# Altium footprint library SparkFun-Capacitors.PCBLIB: 33 footprints (part 1 of 3)
Each footprint in its own frame and in the unit in brackets; x right, y up, seen from the top. Pads: shape width x height; smd on the part's side, far side on the other; paste and mask are expansions set on the pad; w line width, h text height; cw(c..) or ccw(c..) is an arc to the next point about the centre after c.
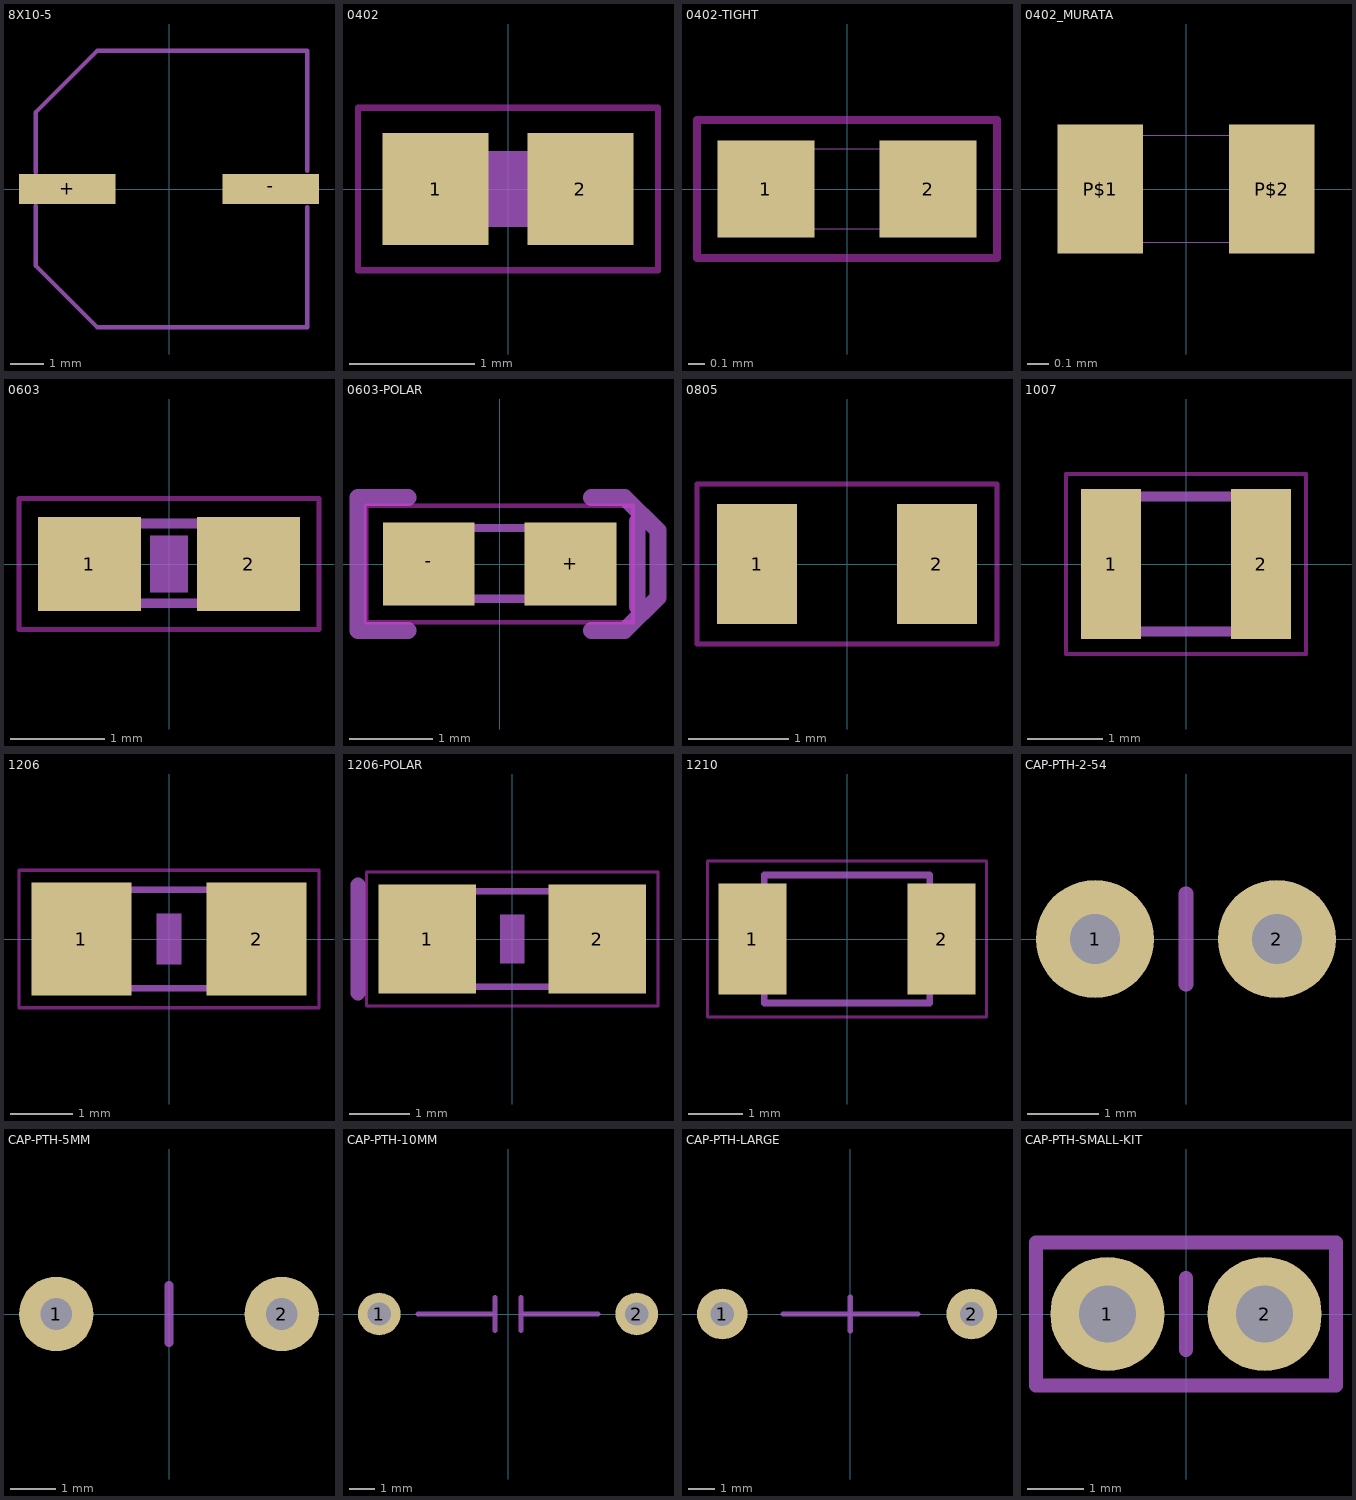
[diagram p0: the footprints below, top view; thin cyan lines are the x and y axes]

## 8X10-5 [mil]
pads (2):
  rect 114.17x35.43 smd: +(-120.08,0) -(120.08,0)
tPlace:
  lines w5: -157.48,-19.69 -157.48,-90.55 -84.65,-163.39 163.39,-163.39 163.39,-21.65 ; -157.48,19.69 -157.48,90.55 -84.65,163.39 163.39,163.39 163.39,21.65

## 0402 [mil]
pads (2):
  rect 33.46x35.43 smd: 1(-22.83,0) 2(22.83,0)
Top keep-out:
  lines w2: -47.24,-25.59 47.24,-25.59 47.24,25.59 -47.24,25.59 -47.24,-25.59
tDocu:
  region: -21.81,-12 -21.81,12 -10,12 -10,-12
  region: 10.19,-12 10.19,12 22,12 22,-12
  lines w6: -10.65,-9 10.65,-9 ; -10.65,9 10.65,9
tGlue:
  region: -7.87,-11.81 -7.87,11.81 7.87,11.81 7.87,-11.81

## 0402-TIGHT [mil]
pads (2):
  rect 23.62x23.62 smd: 1(-19.69,0) 2(19.69,0)
Top keep-out:
  lines w1.97: -36.46,-16.78 -36.46,16.78 36.46,16.78 36.46,-16.78 -36.46,-16.78
tDocu:
  region: -19.69,-9.84 -19.69,9.84 -11.81,9.84 -11.81,-9.84
  region: 19.69,9.84 19.69,-9.84 11.81,-9.84 11.81,9.84
  lines w0.1: -19.69,-9.84 -19.69,9.84 19.69,9.84 19.69,-9.84 -19.69,-9.84

## 0402_MURATA [mil]
pads (2):
  rect 15.75x23.62 smd mask+0: P$1(-15.75,0) P$2(15.75,0)
Top Solder:
  region: -23.62,-11.81 -23.62,11.81 -7.87,11.81 -7.87,-11.81
  region: 7.87,-11.81 7.87,11.81 23.62,11.81 23.62,-11.81
tDocu:
  region: -19.69,-9.84 -19.69,9.84 -11.81,9.84 -11.81,-9.84
  region: 19.69,9.84 19.69,-9.84 11.81,-9.84 11.81,9.84
  lines w0.1: -19.69,-9.84 -19.69,9.84 19.69,9.84 19.69,-9.84 -19.69,-9.84

## 0603 [mm]
pads (2):
  rect 1.1x1 smd: 1(-0.85,0) 2(0.85,0)
Top keep-out:
  lines w0.051: -1.6,-0.7 1.6,-0.7 1.6,0.7 -1.6,0.7 -1.6,-0.7
tDocu:
  region: -0.838,-0.47 -0.838,0.48 -0.338,0.48 -0.338,-0.47
  region: 0.33,-0.47 0.33,0.48 0.83,0.48 0.83,-0.47
  lines w0.102: -0.356,-0.419 0.356,-0.419 ; -0.356,0.432 0.356,0.432
tGlue:
  region: -0.2,-0.3 -0.2,0.3 0.2,0.3 0.2,-0.3

## 0603-POLAR [mm]
pads (2):
  rect 1.1x1 smd: +(0.85,0) -(-0.85,0)
Top keep-out:
  lines w0.051: -1.6,-0.7 1.6,-0.7 1.6,0.7 -1.6,0.7 -1.6,-0.7
tDocu:
  region: -0.838,-0.47 -0.838,0.48 -0.338,0.48 -0.338,-0.47
  region: 0.33,-0.47 0.33,0.48 0.83,0.48 0.83,-0.47
  lines w0.102: -0.356,-0.419 0.356,-0.419 ; -0.356,0.432 0.356,0.432
  lines w0.203: -1.1,-0.8 -1.7,-0.8 -1.7,0.8 -1.1,0.8 ; 1.1,-0.8 1.5,-0.8 1.9,-0.4 1.9,0.4 1.5,0.8 1.1,0.8
tPlace:
  lines w0.203: 1.651,-0.508 1.651,0.508

## 0805 [mil]
pads (2):
  rect 31.5x47.24 smd: 1(-35.43,0) 2(35.43,0)
Top keep-out:
  lines w2: -59.06,-31.5 59.06,-31.5 59.06,31.5 -59.06,31.5 -59.06,-31.5

## 1007 [mm]
pads (2):
  rect 0.8x2 smd: 1(-1,0) 2(1,0)
Top keep-out:
  lines w0.051: -1.6,-1.2 1.6,-1.2 1.6,1.2 -1.6,1.2 -1.6,-1.2
tDocu:
  lines w0.127: -1.25,-0.9 -1.25,0.9 1.25,0.9 1.25,-0.9 -1.25,-0.9

## 1206 [mil]
pads (2):
  rect 62.99x70.87 smd: 1(-55.12,0) 2(55.12,0)
Top keep-out:
  lines w2: -94.49,-43.31 94.49,-43.31 94.49,43.31 -94.49,43.31 -94.49,-43.31
tDocu:
  region: -67,-33.5 -67,33.43 -37.47,33.43 -37.47,-33.5
  region: 37.47,-33.43 37.47,33.5 67,33.5 67,-33.43
  lines w4: -37.99,-30.98 37.99,-30.98 ; -37.99,30.98 37.99,30.98
tGlue:
  region: -7.87,-15.75 -7.87,15.75 7.87,15.75 7.87,-15.75

## 1206-POLAR [mil]
pads (2):
  rect 62.99x70.87 smd: 1(-55.12,0) 2(55.12,0)
Top keep-out:
  lines w2: -94.49,-43.31 94.49,-43.31 94.49,43.31 -94.49,43.31 -94.49,-43.31
tDocu:
  region: -67,-33.5 -67,33.43 -37.47,33.43 -37.47,-33.5
  region: 37.47,-33.43 37.47,33.5 67,33.5 67,-33.43
  lines w4: -37.99,-30.98 37.99,-30.98 ; -37.99,30.98 37.99,30.98
tPlace:
  lines w10: -100,-35 -100,35
tGlue:
  region: -7.87,-15.75 -7.87,15.75 7.87,15.75 7.87,-15.75

## 1210 [mil]
pads (2):
  rect 50x81.1 smd: 1(-69.09,0) 2(69.09,0)
Top keep-out:
  lines w2: -101.97,-57.09 101.97,-57.09 101.97,57.09 -101.97,57.09 -101.97,-57.09
tDocu:
  lines w5: -60.49,-46.71 60.49,-46.71 60.49,46.71 -60.49,46.71 -60.49,-46.71

## CAP-PTH-2-54 [mil]
pads (2):
  round 65 hole 27.56: 1(-50,0) 2(50,0)
tPlace:
  lines w8: 0,-25 0,25

## CAP-PTH-5MM [mil]
pads (2):
  round 65 hole 27.56: 1(-98.43,0) 2(98.43,0)
tPlace:
  lines w8: 0,-25 0,25

## CAP-PTH-10MM [mil]
pads (2):
  round 65 hole 35.43: 1(-196.85,0) 2(196.85,0)
tPlace:
  lines w8: -137.8,0 -19.69,0 ; -19.69,-25 -19.69,0 ; -19.69,25 -19.69,0 ; 19.69,-25 19.69,0 ; 19.69,25 19.69,0 ; 137.8,0 19.69,0

## CAP-PTH-LARGE [mil]
pads (2):
  round 75 hole 35.43: 1(-190,0) 2(180,0)
tPlace:
  lines w8: -100,0 0,0 ; 0,-25 0,0 ; 0,25 0,0 ; 100,0 0,0

## CAP-PTH-SMALL-KIT [mil]
pads (2):
  round 80 hole 40: 1(-55,0) 2(55,0)
Top Solder:
  region: -55.3,-17.3 -58.7,-17.38 -65.05,-14.92 -69.97,-10.23 -72.72,-4 -72.8,-0.6 -72.89,2.97 -70.32,9.64 -65.4,14.81 -58.87,17.71 -55.3,17.8 -51.78,17.74 -45.32,14.94 -40.42,9.87 -37.84,3.32 -37.9,-0.2 -37.93,-3.63 -40.61,-9.95 -45.51,-14.76 -51.87,-17.33 -55.3,-17.3
  region: 54.9,-17.3 51.5,-17.38 45.15,-14.92 40.23,-10.23 37.48,-4 37.4,-0.6 37.31,2.97 39.88,9.64 44.8,14.81 51.33,17.71 54.9,17.8 58.42,17.74 64.88,14.94 69.78,9.87 72.36,3.32 72.3,-0.2 72.27,-3.63 69.59,-9.95 64.69,-14.76 58.33,-17.33 54.9,-17.3
Bottom Solder:
  region: -55.2,-37.3 -58.85,-37.35 -66.04,-36.02 -72.83,-33.31 -78.96,-29.34 -84.2,-24.24 -88.34,-18.22 -91.23,-11.5 -92.75,-4.35 -92.8,-0.7 -92.84,3.04 -91.47,10.39 -88.7,17.33 -84.62,23.59 -79.39,28.94 -73.23,33.17 -66.35,36.11 -59.04,37.66 -55.3,37.7 -51.56,37.65 -44.25,36.08 -37.39,33.12 -31.23,28.88 -26.02,23.51 -21.96,17.24 -19.2,10.29 -17.85,2.94 -17.9,-0.8 -17.94,-4.43 -19.43,-11.55 -22.29,-18.23 -26.39,-24.24 -31.59,-29.32 -37.67,-33.29 -44.42,-36 -51.57,-37.34 -55.2,-37.3
  region: 55,-37.3 51.35,-37.35 44.16,-36.02 37.37,-33.31 31.24,-29.33 26.01,-24.24 21.87,-18.21 18.98,-11.5 17.46,-4.35 17.41,-0.7 17.36,3.04 18.73,10.39 21.51,17.33 25.59,23.59 30.81,28.94 36.98,33.17 43.85,36.11 51.16,37.66 54.9,37.7 58.64,37.65 65.95,36.08 72.81,33.12 78.97,28.88 84.18,23.51 88.24,17.24 91,10.29 92.35,2.94 92.3,-0.8 92.26,-4.43 90.77,-11.55 87.91,-18.23 83.81,-24.24 78.61,-29.32 72.53,-33.29 65.78,-36 58.63,-37.34 55,-37.3
tPlace:
  lines w10: 0,-25 0,25 ; -105,-50 105,-50 105,50 -105,50 -105,-50